# EAGLE library part EPM9560-P280 (library altera_SGQ)
EPM9560 MAX 9000 family
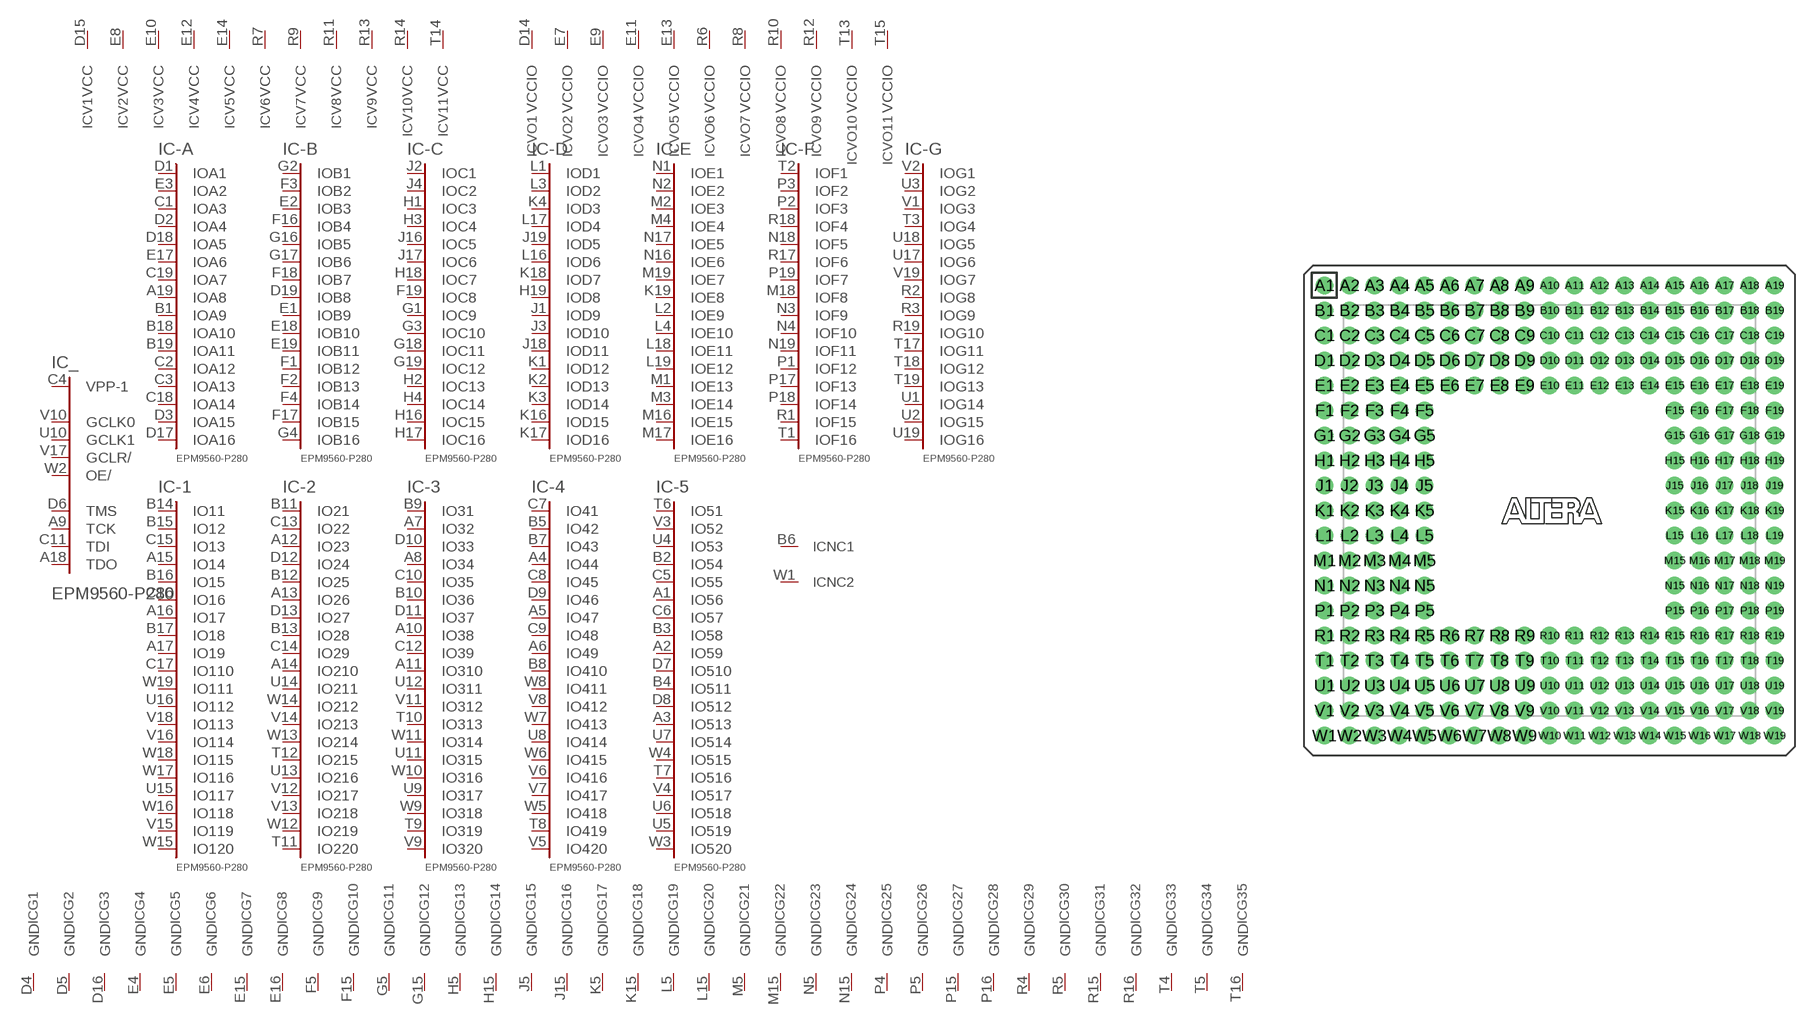
[diagram p31: symbol with the pads of PGA280; footprint PGA280]

Designator prefix IC; gates _=9560C356 -A=A16-0 -B=B16-0 -C=C16-0 -D=D16-0 -E=E16-0 -F=F16-0 -G=G16-0 -1=IO120 -2=IO220 -3=IO320 -4=IO420 -5=IO520 V1=VCCINT V2=VCCINT V3=VCCINT V4=VCCINT V5=VCCINT V6=VCCINT V7=VCCINT V8=VCCINT V9=VCCINT V10=VCCINT V11=VCCINT VO1=VCCIO VO2=VCCIO VO3=VCCIO VO4=VCCIO VO5=VCCIO VO6=VCCIO VO7=VCCIO VO8=VCCIO VO9=VCCIO VO10=VCCIO VO11=VCCIO G1=GND G2=GND G3=GND G4=GND G5=GND G6=GND G7=GND G8=GND G9=GND G10=GND G11=GND G12=GND G13=GND G14=GND G15=GND G16=GND G17=GND G18=GND G19=GND G20=GND G21=GND G22=GND G23=GND G24=GND G25=GND G26=GND G27=GND G28=GND G29=GND G30=GND G31=GND G32=GND G33=GND G34=GND G35=GND NC1=NC NC2=NC

## EPM9560-P280 (OC_FARNELL: unknown; OC_NEWARK: unknown)  [PGA280]
A1  -5:IO56
A2  -5:IO59
A3  -5:IO513
A4  -4:IO44
A5  -4:IO47
A6  -4:IO49
A7  -3:IO32
A8  -3:IO34
A9  _:TCK
A10  -3:IO38
A11  -3:IO310
A12  -2:IO23
A13  -2:IO26
A14  -2:IO210
A15  -1:IO14
A16  -1:IO17
A17  -1:IO19
A18  _:TDO
A19  -A:IOA8
B1  -A:IOA9
B2  -5:IO54
B3  -5:IO58
B4  -5:IO511
B5  -4:IO42
B6  NC1:NC  nc
B7  -4:IO43
B8  -4:IO410
B9  -3:IO31
B10  -3:IO36
B11  -2:IO21
B12  -2:IO25
B13  -2:IO28
B14  -1:IO11
B15  -1:IO12
B16  -1:IO15
B17  -1:IO18
B18  -A:IOA10
B19  -A:IOA11
C1  -A:IOA3
C2  -A:IOA12
C3  -A:IOA13
C4  _:VPP-1  in
C5  -5:IO55
C6  -5:IO57
C7  -4:IO41
C8  -4:IO45
C9  -4:IO48
C10  -3:IO35
C11  _:TDI
C12  -3:IO39
C13  -2:IO22
C14  -2:IO29
C15  -1:IO13
C16  -1:IO16
C17  -1:IO110
C18  -A:IOA14
C19  -A:IOA7
D1  -A:IOA1
D2  -A:IOA4
D3  -A:IOA15
D4  G1:GND  pwr
D5  G2:GND  pwr
D6  _:TMS
D7  -5:IO510
D8  -5:IO512
D9  -4:IO46
D10  -3:IO33
D11  -3:IO37
D12  -2:IO24
D13  -2:IO27
D14  VO1:VCCIO  pwr
D15  V1:VCC  pwr
D16  G3:GND  pwr
D17  -A:IOA16
D18  -A:IOA5
D19  -B:IOB8
E1  -B:IOB9
E2  -B:IOB3
E3  -A:IOA2
E4  G4:GND  pwr
E5  G5:GND  pwr
E6  G6:GND  pwr
E7  VO2:VCCIO  pwr
E8  V2:VCC  pwr
E9  VO3:VCCIO  pwr
E10  V3:VCC  pwr
E11  VO4:VCCIO  pwr
E12  V4:VCC  pwr
E13  VO5:VCCIO  pwr
E14  V5:VCC  pwr
E15  G7:GND  pwr
E16  G8:GND  pwr
E17  -A:IOA6
E18  -B:IOB10
E19  -B:IOB11
F1  -B:IOB12
F2  -B:IOB13
F3  -B:IOB2
F4  -B:IOB14
F5  G9:GND  pwr
F15  G10:GND  pwr
F16  -B:IOB4
F17  -B:IOB15
F18  -B:IOB7
F19  -C:IOC8
G1  -C:IOC9
G2  -B:IOB1
G3  -C:IOC10
G4  -B:IOB16
G5  G11:GND  pwr
G15  G12:GND  pwr
G16  -B:IOB5
G17  -B:IOB6
G18  -C:IOC11
G19  -C:IOC12
H1  -C:IOC3
H2  -C:IOC13
H3  -C:IOC4
H4  -C:IOC14
H5  G13:GND  pwr
H15  G14:GND  pwr
H16  -C:IOC15
H17  -C:IOC16
H18  -C:IOC7
H19  -D:IOD8
J1  -D:IOD9
J2  -C:IOC1
J3  -D:IOD10
J4  -C:IOC2
J5  G15:GND  pwr
J15  G16:GND  pwr
J16  -C:IOC5
J17  -C:IOC6
J18  -D:IOD11
J19  -D:IOD5
K1  -D:IOD12
K2  -D:IOD13
K3  -D:IOD14
K4  -D:IOD3
K5  G17:GND  pwr
K15  G18:GND  pwr
K16  -D:IOD15
K17  -D:IOD16
K18  -D:IOD7
K19  -E:IOE8
L1  -D:IOD1
L2  -E:IOE9
L3  -D:IOD2
L4  -E:IOE10
L5  G19:GND  pwr
L15  G20:GND  pwr
L16  -D:IOD6
L17  -D:IOD4
L18  -E:IOE11
L19  -E:IOE12
M1  -E:IOE13
M2  -E:IOE3
M3  -E:IOE14
M4  -E:IOE4
M5  G21:GND  pwr
M15  G22:GND  pwr
M16  -E:IOE15
M17  -E:IOE16
M18  -F:IOF8
M19  -E:IOE7
N1  -E:IOE1
N2  -E:IOE2
N3  -F:IOF9
N4  -F:IOF10
N5  G23:GND  pwr
N15  G24:GND  pwr
N16  -E:IOE6
N17  -E:IOE5
N18  -F:IOF5
N19  -F:IOF11
P1  -F:IOF12
P2  -F:IOF3
P3  -F:IOF2
P4  G25:GND  pwr
P5  G26:GND  pwr
P15  G27:GND  pwr
P16  G28:GND  pwr
P17  -F:IOF13
P18  -F:IOF14
P19  -F:IOF7
R1  -F:IOF15
R2  -G:IOG8
R3  -G:IOG9
R4  G29:GND  pwr
R5  G30:GND  pwr
R6  VO6:VCCIO  pwr
R7  V6:VCC  pwr
R8  VO7:VCCIO  pwr
R9  V7:VCC  pwr
R10  VO8:VCCIO  pwr
R11  V8:VCC  pwr
R12  VO9:VCCIO  pwr
R13  V9:VCC  pwr
R14  V10:VCC  pwr
R15  G31:GND  pwr
R16  G32:GND  pwr
R17  -F:IOF6
R18  -F:IOF4
R19  -G:IOG10
T1  -F:IOF16
T2  -F:IOF1
T3  -G:IOG4
T4  G33:GND  pwr
T5  G34:GND  pwr
T6  -5:IO51
T7  -5:IO516
T8  -4:IO419
T9  -3:IO319
T10  -3:IO313
T11  -2:IO220
T12  -2:IO215
T13  VO10:VCCIO  pwr
T14  V11:VCC  pwr
T15  VO11:VCCIO  pwr
T16  G35:GND  pwr
T17  -G:IOG11
T18  -G:IOG12
T19  -G:IOG13
U1  -G:IOG14
U2  -G:IOG15
U3  -G:IOG2
U4  -5:IO53
U5  -5:IO519
U6  -5:IO518
U7  -5:IO514
U8  -4:IO414
U9  -3:IO317
U10  _:GCLK1  in
U11  -3:IO315
U12  -3:IO311
U13  -2:IO216
U14  -2:IO211
U15  -1:IO117
U16  -1:IO112
U17  -G:IOG6
U18  -G:IOG5
U19  -G:IOG16
V1  -G:IOG3
V2  -G:IOG1
V3  -5:IO52
V4  -5:IO517
V5  -4:IO420
V6  -4:IO416
V7  -4:IO417
V8  -4:IO412
V9  -3:IO320
V10  _:GCLK0  in
V11  -3:IO312
V12  -2:IO217
V13  -2:IO218
V14  -2:IO213
V15  -1:IO119
V16  -1:IO114
V17  _:GCLR/  in
V18  -1:IO113
V19  -G:IOG7
W1  NC2:NC  nc
W2  _:OE/  in
W3  -5:IO520
W4  -5:IO515
W5  -4:IO418
W6  -4:IO415
W7  -4:IO413
W8  -4:IO411
W9  -3:IO318
W10  -3:IO316
W11  -3:IO314
W12  -2:IO219
W13  -2:IO214
W14  -2:IO212
W15  -1:IO120
W16  -1:IO118
W17  -1:IO116
W18  -1:IO115
W19  -1:IO111

## Footprint PGA280 (pad centres in mm)
Pin Grid Array
drill 0.813 pad 1.778: A1 -22.86,22.86; A2 -20.32,22.86; A3 -17.78,22.86; A4 -15.24,22.86; A5 -12.7,22.86; A6 -10.16,22.86; A7 -7.62,22.86; A8 -5.08,22.86; A9 -2.54,22.86; A10 0,22.86; A11 2.54,22.86; A12 5.08,22.86; A13 7.62,22.86; A14 10.16,22.86; A15 12.7,22.86; A16 15.24,22.86; A17 17.78,22.86; A18 20.32,22.86; A19 22.86,22.86; B1 -22.86,20.32; B2 -20.32,20.32; B3 -17.78,20.32; B4 -15.24,20.32; B5 -12.7,20.32; B6 -10.16,20.32; B7 -7.62,20.32; B8 -5.08,20.32; B9 -2.54,20.32; B10 0,20.32; B11 2.54,20.32; B12 5.08,20.32; B13 7.62,20.32; B14 10.16,20.32; B15 12.7,20.32; B16 15.24,20.32; B17 17.78,20.32; B18 20.32,20.32; B19 22.86,20.32; C1 -22.86,17.78; C2 -20.32,17.78; C3 -17.78,17.78; C4 -15.24,17.78; C5 -12.7,17.78; C6 -10.16,17.78; C7 -7.62,17.78; C8 -5.08,17.78; C9 -2.54,17.78; C10 0,17.78; C11 2.54,17.78; C12 5.08,17.78; C13 7.62,17.78; C14 10.16,17.78; C15 12.7,17.78; C16 15.24,17.78; C17 17.78,17.78; C18 20.32,17.78; C19 22.86,17.78; D1 -22.86,15.24; D2 -20.32,15.24; D3 -17.78,15.24; D4 -15.24,15.24; D5 -12.7,15.24; D6 -10.16,15.24; D7 -7.62,15.24; D8 -5.08,15.24; D9 -2.54,15.24; D10 0,15.24; D11 2.54,15.24; D12 5.08,15.24; D13 7.62,15.24; D14 10.16,15.24; D15 12.7,15.24; D16 15.24,15.24; D17 17.78,15.24; D18 20.32,15.24; D19 22.86,15.24; E1 -22.86,12.7; E2 -20.32,12.7; E3 -17.78,12.7; E4 -15.24,12.7; E5 -12.7,12.7; E6 -10.16,12.7; E7 -7.62,12.7; E8 -5.08,12.7; E9 -2.54,12.7; E10 0,12.7; E11 2.54,12.7; E12 5.08,12.7; E13 7.62,12.7; E14 10.16,12.7; E15 12.7,12.7; E16 15.24,12.7; E17 17.78,12.7; E18 20.32,12.7; E19 22.86,12.7; F1 -22.86,10.16; F2 -20.32,10.16; F3 -17.78,10.16; F4 -15.24,10.16; F5 -12.7,10.16; F15 12.7,10.16; F16 15.24,10.16; F17 17.78,10.16; F18 20.32,10.16; F19 22.86,10.16; G1 -22.86,7.62; G2 -20.32,7.62; G3 -17.78,7.62; G4 -15.24,7.62; G5 -12.7,7.62; G15 12.7,7.62; G16 15.24,7.62; G17 17.78,7.62; G18 20.32,7.62; G19 22.86,7.62; H1 -22.86,5.08; H2 -20.32,5.08; H3 -17.78,5.08; H4 -15.24,5.08; H5 -12.7,5.08; H15 12.7,5.08; H16 15.24,5.08; H17 17.78,5.08; H18 20.32,5.08; H19 22.86,5.08; J1 -22.86,2.54; J2 -20.32,2.54; J3 -17.78,2.54; J4 -15.24,2.54; J5 -12.7,2.54; J15 12.7,2.54; J16 15.24,2.54; J17 17.78,2.54; J18 20.32,2.54; J19 22.86,2.54; K1 -22.86,0; K2 -20.32,0; K3 -17.78,0; K4 -15.24,0; K5 -12.7,0; K15 12.7,0; K16 15.24,0; K17 17.78,0; K18 20.32,0; K19 22.86,0; L1 -22.86,-2.54; L2 -20.32,-2.54; L3 -17.78,-2.54; L4 -15.24,-2.54; L5 -12.7,-2.54; L15 12.7,-2.54; L16 15.24,-2.54; L17 17.78,-2.54; L18 20.32,-2.54; L19 22.86,-2.54; M1 -22.86,-5.08; M2 -20.32,-5.08; M3 -17.78,-5.08; M4 -15.24,-5.08; M5 -12.7,-5.08; M15 12.7,-5.08; M16 15.24,-5.08; M17 17.78,-5.08; M18 20.32,-5.08; M19 22.86,-5.08; N1 -22.86,-7.62; N2 -20.32,-7.62; N3 -17.78,-7.62; N4 -15.24,-7.62; N5 -12.7,-7.62; N15 12.7,-7.62; N16 15.24,-7.62; N17 17.78,-7.62; N18 20.32,-7.62; N19 22.86,-7.62; P1 -22.86,-10.16; P2 -20.32,-10.16; P3 -17.78,-10.16; P4 -15.24,-10.16; P5 -12.7,-10.16; P15 12.7,-10.16; P16 15.24,-10.16; P17 17.78,-10.16; P18 20.32,-10.16; P19 22.86,-10.16; R1 -22.86,-12.7; R2 -20.32,-12.7; R3 -17.78,-12.7; R4 -15.24,-12.7; R5 -12.7,-12.7; R6 -10.16,-12.7; R7 -7.62,-12.7; R8 -5.08,-12.7; R9 -2.54,-12.7; R10 0,-12.7; R11 2.54,-12.7; R12 5.08,-12.7; R13 7.62,-12.7; R14 10.16,-12.7; R15 12.7,-12.7; R16 15.24,-12.7; R17 17.78,-12.7; R18 20.32,-12.7; R19 22.86,-12.7; T1 -22.86,-15.24; T2 -20.32,-15.24; T3 -17.78,-15.24; T4 -15.24,-15.24; T5 -12.7,-15.24; T6 -10.16,-15.24; T7 -7.62,-15.24; T8 -5.08,-15.24; T9 -2.54,-15.24; T10 0,-15.24; T11 2.54,-15.24; T12 5.08,-15.24; T13 7.62,-15.24; T14 10.16,-15.24; T15 12.7,-15.24; T16 15.24,-15.24; T17 17.78,-15.24; T18 20.32,-15.24; T19 22.86,-15.24; U1 -22.86,-17.78; U2 -20.32,-17.78; U3 -17.78,-17.78; U4 -15.24,-17.78; U5 -12.7,-17.78; U6 -10.16,-17.78; U7 -7.62,-17.78; U8 -5.08,-17.78; U9 -2.54,-17.78; U10 0,-17.78; U11 2.54,-17.78; U12 5.08,-17.78; U13 7.62,-17.78; U14 10.16,-17.78; U15 12.7,-17.78; U16 15.24,-17.78; U17 17.78,-17.78; U18 20.32,-17.78; U19 22.86,-17.78; V1 -22.86,-20.32; V2 -20.32,-20.32; V3 -17.78,-20.32; V4 -15.24,-20.32; V5 -12.7,-20.32; V6 -10.16,-20.32; V7 -7.62,-20.32; V8 -5.08,-20.32; V9 -2.54,-20.32; V10 0,-20.32; V11 2.54,-20.32; V12 5.08,-20.32; V13 7.62,-20.32; V14 10.16,-20.32; V15 12.7,-20.32; V16 15.24,-20.32; V17 17.78,-20.32; V18 20.32,-20.32; V19 22.86,-20.32; W1 -22.86,-22.86; W2 -20.32,-22.86; W3 -17.78,-22.86; W4 -15.24,-22.86; W5 -12.7,-22.86; W6 -10.16,-22.86; W7 -7.62,-22.86; W8 -5.08,-22.86; W9 -2.54,-22.86; W10 0,-22.86; W11 2.54,-22.86; W12 5.08,-22.86; W13 7.62,-22.86; W14 10.16,-22.86; W15 12.7,-22.86; W16 15.24,-22.86; W17 17.78,-22.86; W18 20.32,-22.86; W19 22.86,-22.86